# EAGLE library part STMPE321QTR (library ST Microelctronics_By_element14_Batch_1)
3-channel capacitive touchkey controller
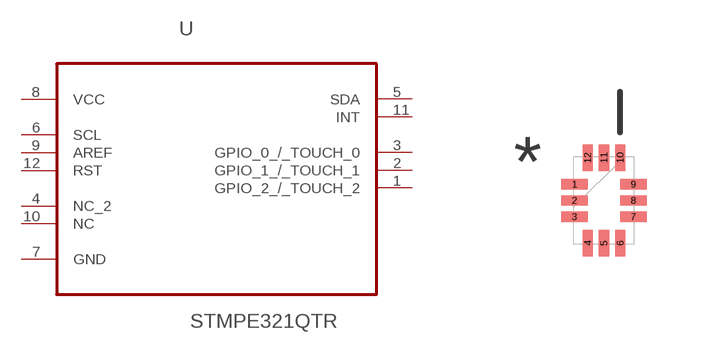
[diagram p366: symbol with the pads of QFN40P150X220X60-12N; footprint QFN40P150X220X60-12N]

Designator prefix U

## STMPE321QTR (MPN: STMPE321QTR; OC_FARNELL: 1838550; OC_NEWARK: 23T0679; PACKAGE: QFN-12; SUPPLIER: STMicroelectronics)  [QFN40P150X220X60-12N]
1  GPIO_2_/_TOUCH_2
2  GPIO_1_/_TOUCH_1
3  GPIO_0_/_TOUCH_0
4  NC_2  nc
5  SDA
6  SCL  in
7  GND  pas
8  VCC  pwr
9  AREF  in
10  NC  nc
11  INT  out
12  RST  in

## Footprint QFN40P150X220X60-12N (pad centres in mm)
smd 0.66 x 0.254: 1 -0.737,0.406; 2 -0.737,0; 3 -0.737,-0.406; 7 0.737,-0.406; 8 0.737,0; 9 0.737,0.406
smd 0.254 x 0.66: 4 -0.406,-1.067; 5 0,-1.067; 6 0.406,-1.067; 10 0.406,1.067; 11 0,1.067; 12 -0.406,1.067